# EAGLE library part M03X2 (library work)
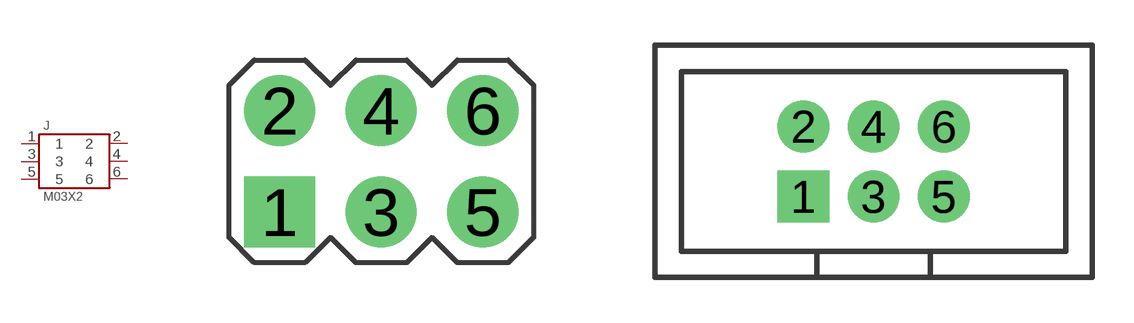
[diagram p78: symbol with the pads of M03X2; footprints M03X2, M03X2_SHROUDED]

Designator prefix J

## M03X2  [M03X2]
1  1
2  2
3  3
4  4
5  5
6  6

## M03X2_SHROUDED  [M03X2_SHROUDED]
Pads as for M03X2

## M03X2-50MIL  [M03X2_50MIL]
Pads as for M03X2

## Footprint M03X2 (pad centres in mm)
drill 0.9 pad 1.778 square: 1 -2.54,-1.27
drill 0.9 pad 1.778: 2 -2.54,1.27; 3 0,-1.27; 4 0,1.27; 5 2.54,-1.27; 6 2.54,1.27

## Footprint M03X2_SHROUDED (pad centres in mm)
drill 1 pad 1.88 square: 1 -2.54,-1.27
drill 1 pad 1.88: 2 -2.54,1.27; 3 0,-1.27; 4 0,1.27; 5 2.54,-1.27; 6 2.54,1.27

## Footprint M03X2_50MIL (pad centres in mm)
drill 0.508 pad 0.914 square: 1 -1.27,-0.635
drill 0.508 pad 0.914: 2 -1.27,0.635; 3 0,-0.635; 4 0,0.635; 5 1.27,-0.635; 6 1.27,0.635